# Altium schematic symbol library capacitors.SchLib: 8 symbols
Pins are listed as number, name and electrical type; pins without a type are passive.

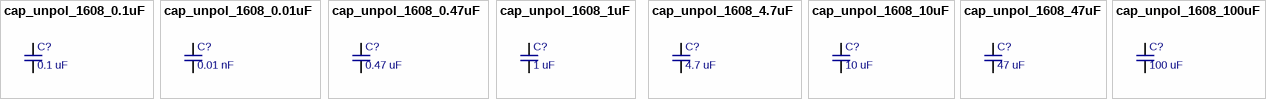
[diagram p0: symbols cap_unpol_1608_0.1uF to cap_unpol_1608_100uF]

## cap_unpol_1608_0.1uF
designator C?, comment 0.1 uF
0.1 uF unpolarized capacitor (1608 size); Voltage Rating: 6.3 V; Body Size (metric): 1608; Ideal Value: 0.1 uF
pins: 1, 2

## cap_unpol_1608_0.01uF
designator C?, comment 0.01 nF
0.01 uF unpolarized capacitor (1608 size); Voltage Rating: 6.3 V; Body Size (metric): 1608; Ideal Value: 0.01 nF
pins: 1, 2

## cap_unpol_1608_0.47uF
designator C?, comment 0.47 uF
0.47 uF unpolarized capacitor (1608 size); Suggested Part Number: GRM188R70J474KA01; Voltage rating: 6.3 V; ESR Range: 1 mOhm - 20 mOhm; ESL Maximum: 0.5 nH; Type: 2-Terminal Ceramic X7R or X5R; Value Range: C > 0.47 uF; Body Size (metric): 1608; Ideal Value: 0.47 uF
pins: 1, 2

## cap_unpol_1608_1uF
designator C?, comment 1 uF
1 uF unpolarized capacitor (1608 size); Voltage Rating: 6.3 V; Body Size (metric): 1608; Ideal Value: 1 uF
pins: 1, 2

## cap_unpol_1608_4.7uF
designator C?, comment 4.7 uF
4.7 uF unpolarized capacitor (1608 size); Suggested Part Number: GRM21BR71A475KA73; Voltage Rating: 6.3 V; ESR Range: 1 mOhm - 20 mOhm; ESL Maximum: 0.5 nH; Type: 2-Terminal Ceramic X7R or X5R; Value Range: C > 4.7 uF; Body Size (metric): 2012; Ideal Value: 4.7 uF
pins: 1, 2

## cap_unpol_1608_10uF
designator C?, comment 10 uF
10 uF unpolarized capacitor (1608 size); Voltage Rating: 6.3 V; Body Size (metric): 1608; Ideal Value: 10 uF
pins: 1, 2

## cap_unpol_1608_47uF
designator C?, comment 47 uF
47 uF unpolarized capacitor (1608 size); Suggested Part Number: GRM32ER70J476ME20L; Type: 2-Terminal Ceramic X7R or X5R; ESL Maximum: 1 nH; ESR Range: 1 mOhm - 40 mOhm; Voltage Rating: 6.3 V; Value Range: C > 47 uF; Body Size (metric): 3225; Ideal Value: 47 uF
pins: 1, 2

## cap_unpol_1608_100uF
designator C?, comment 100 uF
100 uF unpolarized capacitor (1608 size); Suggested Part Number: GRM32ER60J107ME20L; Type: 2-Terminal Tantalum Ceramic X7R or X5R; ESL Maximum: 1 nH; ESR Range: 1 mOhm - 40 mOhm; Voltage Rating: 2.5 V; Value Range: C > 100 uF; Body Size (metric): 3225; Ideal Value: 100 uF
pins: 1, 2